# Altium footprint library KN2CLib.PcbLib: 124 footprints (part 5 of 8)
Each footprint in its own frame and in the unit in brackets; x right, y up, seen from the top. Pads: shape width x height; smd on the part's side, far side on the other; paste and mask are expansions set on the pad; w line width, h text height; cw(c..) or ccw(c..) is an arc to the next point about the centre after c.
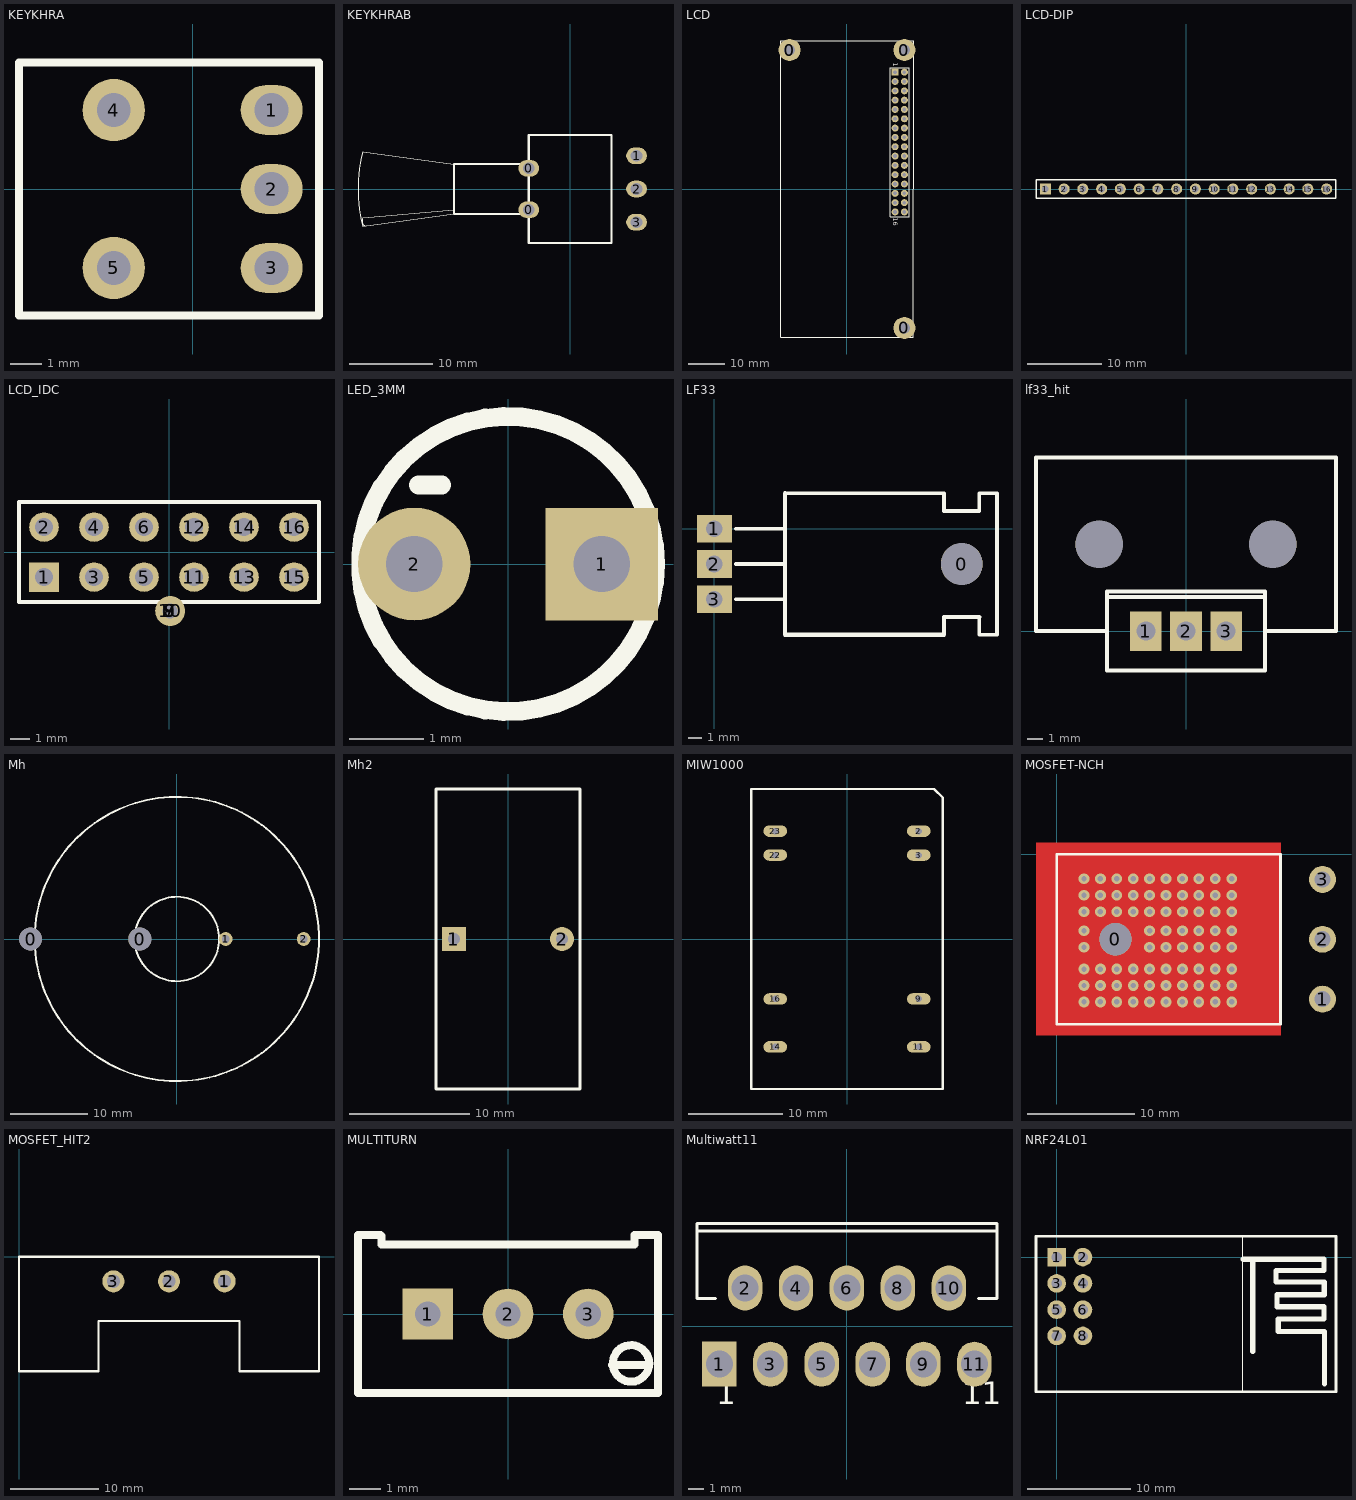
[diagram p4: the footprints below, top view; thin cyan lines are the x and y axes]

## KEYKHRA [mm]
pads (5):
  oval 2x1.6 hole 1.09: 1(2.54,2.54) 2(2.54,0) 3(2.54,-2.54)
  round 2 hole 1.09: 4(-2.54,2.54) 5(-2.54,-2.54)
Top Overlay:
  lines w0.254: -5.588,-4.064 -5.588,4.064 4.064,4.064 4.064,-4.064 -5.588,-4.064
3D body: height 4, standoff 0, extent -5.6,-4.1 4.025,4.1

## KEYKHRAB [mm]
pads (5):
  oval 2.5x2 hole 1.4: 0(-5,-2.5) 0(-5,2.5) 1(8,4) 2(8,0) 3(8,-4)
Top Overlay:
  lines w0.1: -25.024,-4.506 cw(c-7.503,0) -25.024,4.506 ; -25.025,-4.503 -14,-3 ; -25.025,4.503 -14,3 ; -25.002,-3.492 ccw(c-24.391,-3.85) -24.757,-4.456 ; -25.002,-3.487 -14,-2.5
  lines w0.254: -5,-3 -14,-3 -14,3 -5,3 ; -5,-6.5 -5,6.5 5,6.5 5,-6.5 -5,-6.5
3D body: height 8, standoff 0, extent -25.6,-6.5 4.975,6.5

## LCD [mm]
pads (35):
  round 6 hole 3: 0(-15.655,37.887) 0(15.655,-37.887) 0(15.655,37.887)
  rect 1.9x1.9 hole 1: 1(13.105,31.843)
  round 1.9 hole 1: 1(15.645,31.843) 2(13.105,29.303) 2(15.645,29.303) 3(13.105,26.763) 3(15.645,26.763) 4(13.105,24.223) 4(15.645,24.223) 5(13.105,21.683) 5(15.645,21.683) 6(13.105,19.143) 6(15.645,19.143) 7(13.105,16.603) 7(15.645,16.603) 8(13.105,14.063) 8(15.645,14.063) 9(13.105,11.523) 9(15.645,11.523) 10(13.105,8.983) 10(15.645,8.983) 11(13.105,6.443) 11(15.645,6.443) 12(13.105,3.903) 12(15.645,3.903) 13(13.105,1.363) 13(15.645,1.363) 14(13.105,-1.177) 14(15.645,-1.177) 15(13.105,-3.717) 15(15.645,-3.717) 16(13.105,-6.257) 16(15.645,-6.257)
Top Overlay:
  lines w0.2: 11.835,-7.527 16.915,-7.527 16.915,33.113 11.835,33.113 11.835,-7.527
  lines w0.254: -18.055,-40.387 18.055,-40.387 18.145,40.387 -18.055,40.387 -18.055,-40.387
  text "1" at 12.597,34.383 h1.27
  text "16" at 12.597,-7.781 h1.27
3D body: height 15, standoff 8, extent -18,-40.483 18.125,40.425
3D body: height 10, standoff 0, extent 11.8,-7.525 16.9,33.1

## LCD-DIP [mm]
pads (16):
  rect 1.5x1.5 hole 0.9: 1(-19.05,0)
  round 1.5 hole 0.9: 2(-16.51,0) 3(-13.97,0) 4(-11.43,0) 5(-8.89,0) 6(-6.35,0) 7(-3.81,0) 8(-1.27,0) 9(1.27,0) 10(3.81,0) 11(6.35,0) 12(8.89,0) 13(11.43,0) 14(13.97,0) 15(16.51,0) 16(19.05,0)
Top Overlay:
  lines w0.2: -20.32,-1.27 20.32,-1.27 20.32,1.27 -18.415,1.27 -20.32,1.27 -20.32,-1.27

## LCD_IDC [mm]
pads (16):
  rect 1.5x1.5 hole 0.9: 1(-6.35,-1.27)
  round 1.5 hole 0.9: 2(-6.35,1.27) 3(-3.81,-1.27) 4(-3.81,1.27) 5(-1.27,-1.27) 6(-1.27,1.27) 11(1.27,-1.27) 12(1.27,1.27) 13(3.81,-1.27) 14(3.81,1.27) 15(6.35,-1.27) 16(6.35,1.27)
  round 1.524 hole 0.762: 7(0.061,-2.992) 8(0.061,-2.992) 9(0.061,-2.992) 10(0.061,-2.992)
Top Overlay:
  lines w0.2: -7.62,-2.54 -7.62,2.54 7.62,2.54 7.62,-2.54 -7.62,-2.54

## LED_3MM [mil]
pads (2):
  rect 60x60 hole 30: 1(50,0)
  round 60 hole 30: 2(-50,0)
Top Overlay:
  circle w10: c0,0 r78.74
  lines w10: -47.7,42.1 -35.3,42.1
3D body: height 118.11, standoff 0, extent -79.72,-77.76 79.72,75.79

## LF33 [mm]
pads (4):
  round 3 hole 3: 0(17.78,-2.54)
  rect 2.5x2 hole 1.2: 1(0,0) 2(0,-2.54) 3(0,-5.08)
Top Overlay:
  lines w0.254: 1.524,-5.08 5.08,-5.08 ; 1.524,-2.54 5.08,-2.54 ; 1.524,0 5.08,0 ; 5.08,2.54 16.51,2.54 16.51,1.27 19.05,1.27 19.05,2.54 20.32,2.54 20.32,-7.62 19.05,-7.62 19.05,-6.35
  lines w0.305: 5.08,2.54 5.08,-7.62 16.51,-7.62 16.51,-6.35 19.05,-6.35
3D body: height 4, standoff 0, extent 5.15,-7.625 20.325,2.525

## lf33_hit [mm]
pads (5):
  rect 2x2.5 hole 1.2: 1(-2.54,0) 2(0,0) 3(2.54,0)
  round 3 hole 3: ""(-5.5,5.5) ""(5.5,5.5)
Top Overlay:
  lines w0.254: -5,0 -9.5,0 -9.5,11 9.5,11 9.5,0 5,0 ; -5,2.159 5,2.159 ; -5,-2.5 5,-2.5 5,2.5 -5,2.5 -5,-2.5
3D body: height 4, standoff 0, extent -9.525,-2.45 9.525,11.025

## Mh [mm]
pads (4):
  round 3 hole 3: 0(-19.05,0) 0(-4.826,0)
  round 1.8 hole 1: 1(6.35,0) 2(16.51,0)
Top Overlay:
  circle w0.254: c0,0 r18.5
  circle w0.254: c0,0 r5.5
3D body: height 5, standoff 0, extent -18.5,-18.5 18.575,18.525

## Mh2 [mm]
pads (2):
  rect 2x2 hole 1: 1(-4.5,0)
  round 2 hole 1: 2(4.5,0)
Top Overlay:
  lines w0.254: -6,-12.5 6,-12.5 6,12.5 -6,12.5 -6,-12.5
3D body: height 4, standoff 0, extent -5.95,-12.45 5.925,12.525

## MIW1000 [mm]
pads (8):
  oval 2.5x1.2 hole 0.7: 2(7.61,11.43) 3(7.61,8.89) 9(7.61,-6.35) 11(7.61,-11.43) 14(-7.61,-11.43) 16(-7.61,-6.35) 22(-7.61,8.89) 23(-7.61,11.43)
Top Overlay:
  lines w0.254: -10.15,-15.9 10.15,-15.9 10.15,14.983 9.233,15.9 -10.15,15.9 -10.15,-15.9
3D body: height 4, standoff 0, extent -10.1,-15.975 10.1,15.8

## MOSFET-NCH [mm]
pads (4):
  round 3 hole 3: 0(5.46,-7.9)
  round 2.5 hole 1.5: 1(24.7,-13.46) 2(24.7,-7.9) 3(24.7,-2.34)
via 2.54,-8.636 diameter 1 hole 0.5
via 2.54,-7.112 diameter 1 hole 0.5
via 14.732,-10.668 diameter 1 hole 0.5
via 16.256,-10.668 diameter 1 hole 0.5
via 8.636,-10.668 diameter 1 hole 0.5
via 10.16,-10.668 diameter 1 hole 0.5
via 13.208,-10.668 diameter 1 hole 0.5
via 11.684,-10.668 diameter 1 hole 0.5
via 5.588,-10.668 diameter 1 hole 0.5
via 7.112,-10.668 diameter 1 hole 0.5
via 4.064,-10.668 diameter 1 hole 0.5
via 2.54,-10.668 diameter 1 hole 0.5
via 14.732,-12.192 diameter 1 hole 0.5
via 16.256,-12.192 diameter 1 hole 0.5
via 8.636,-12.192 diameter 1 hole 0.5
via 10.16,-12.192 diameter 1 hole 0.5
via 13.208,-12.192 diameter 1 hole 0.5
via 11.684,-12.192 diameter 1 hole 0.5
via 5.588,-12.192 diameter 1 hole 0.5
via 7.112,-12.192 diameter 1 hole 0.5
via 4.064,-12.192 diameter 1 hole 0.5
via 2.54,-12.192 diameter 1 hole 0.5
via 14.732,-13.716 diameter 1 hole 0.5
via 16.256,-13.716 diameter 1 hole 0.5
via 8.636,-13.716 diameter 1 hole 0.5
via 10.16,-13.716 diameter 1 hole 0.5
via 13.208,-13.716 diameter 1 hole 0.5
via 11.684,-13.716 diameter 1 hole 0.5
via 5.588,-13.716 diameter 1 hole 0.5
via 7.112,-13.716 diameter 1 hole 0.5
via 4.064,-13.716 diameter 1 hole 0.5
via 2.54,-13.716 diameter 1 hole 0.5
via 2.54,-5.334 diameter 1 hole 0.5
via 4.064,-5.334 diameter 1 hole 0.5
via 7.112,-5.334 diameter 1 hole 0.5
via 5.588,-5.334 diameter 1 hole 0.5
via 11.684,-5.334 diameter 1 hole 0.5
via 13.208,-5.334 diameter 1 hole 0.5
via 10.16,-5.334 diameter 1 hole 0.5
via 8.636,-5.334 diameter 1 hole 0.5
via 16.256,-5.334 diameter 1 hole 0.5
via 14.732,-5.334 diameter 1 hole 0.5
via 2.54,-3.81 diameter 1 hole 0.5
via 4.064,-3.81 diameter 1 hole 0.5
via 7.112,-3.81 diameter 1 hole 0.5
via 5.588,-3.81 diameter 1 hole 0.5
via 11.684,-3.81 diameter 1 hole 0.5
via 13.208,-3.81 diameter 1 hole 0.5
via 10.16,-3.81 diameter 1 hole 0.5
via 8.636,-3.81 diameter 1 hole 0.5
via 16.256,-3.81 diameter 1 hole 0.5
via 14.732,-3.81 diameter 1 hole 0.5
via 2.54,-2.286 diameter 1 hole 0.5
via 4.064,-2.286 diameter 1 hole 0.5
via 7.112,-2.286 diameter 1 hole 0.5
via 5.588,-2.286 diameter 1 hole 0.5
via 11.684,-2.286 diameter 1 hole 0.5
via 13.208,-2.286 diameter 1 hole 0.5
via 10.16,-2.286 diameter 1 hole 0.5
via 8.636,-2.286 diameter 1 hole 0.5
via 16.256,-2.286 diameter 1 hole 0.5
via 14.732,-2.286 diameter 1 hole 0.5
via 14.732,-7.112 diameter 1 hole 0.5
via 16.256,-7.112 diameter 1 hole 0.5
via 8.636,-7.112 diameter 1 hole 0.5
via 10.16,-7.112 diameter 1 hole 0.5
via 13.208,-7.112 diameter 1 hole 0.5
via 11.684,-7.112 diameter 1 hole 0.5
via 14.732,-8.636 diameter 1 hole 0.5
via 16.256,-8.636 diameter 1 hole 0.5
via 8.636,-8.636 diameter 1 hole 0.5
via 10.16,-8.636 diameter 1 hole 0.5
via 13.208,-8.636 diameter 1 hole 0.5
via 11.684,-8.636 diameter 1 hole 0.5
Top Layer:
  rectangle: 1.27,-14.732 18.034,-1.27
  pour cut-out: 20.795,1.044 -1.915,1.044 -1.915,-16.792 20.81,-16.792 20.81,1.029
Bottom Layer:
  rectangle: 1.27,-14.732 18.034,-1.27
  pour cut-out: 0.003,-0.003 19.632,-0.003 19.632,-15.824 0,-15.824 0,-0.005
Top Overlay:
  lines w0.254: 0,-15.8 20.8,-15.8 20.8,0 0,0 0,-15.8
3D body: height 4.82, standoff 0.24, extent 0,-15.748 20.828,0

## MOSFET_HIT2 [mm]
pads (3):
  round 2.5 hole 1.5: 1(23.3,-2.8) 2(17,-2.8) 3(10.7,-2.8)
Top Overlay:
  lines w0.254: 0,-13 9,-13 9,-7.3 25,-7.3 25,-13 34,-13 34,0 0,0 0,-13

## MULTITURN [mm]
pads (3):
  rect 1.6x1.6 hole 0.8: 1(-2.54,0)
  round 1.6 hole 0.8: 2(0,0) 3(2.54,0)
Top Overlay:
  circle w0.254: c3.895,-1.565 r0.578
  lines w0.254: -4.036,2.5 -4.75,2.5 -4.75,-2.5 4.75,-2.5 4.75,2.5 4,2.5 ; -4,2.464 -4,2.2 4,2.2 4,2.493 ; 3.289,-1.615 4.422,-1.615
3D body: height 4, standoff 0, extent -4.775,-2.5 4.725,2.525

## Multiwatt11 [mm] "TO, Thru-Hole, Vertical, Heatsink Mounted; 11 Bent Staggered Leads; Pitch 1.7 mm"
height 21
pads (11):
  rect 2.3x3 hole 1.8: 1(-8.5,-2.54)
  oval 2.3x3 hole 1.8: 2(-6.8,2.54) 3(-5.1,-2.54) 4(-3.4,2.54) 5(-1.7,-2.54) 6(0,2.54) 7(1.7,-2.54) 8(3.4,2.54) 9(5.1,-2.54) 10(6.8,2.54) 11(8.5,-2.54)
Top Overlay:
  lines w0.2: -10,6.33 9.9,6.33 ; -8.754,1.83 -10,1.83 -10,6.83 10,6.83 10,1.83 8.774,1.83
  text "1" at -8.73,-5.215 h1.5
  text "11" at 7.67,-5.215 h1.5
3D body: height 4, standoff 0, extent -10,-0.225 10,6.85

## NRF24L01 [mm]
pads (8):
  rect 1.8x1.8 hole 1: 1(0,0)
  round 1.8 hole 1: 2(2.54,0) 3(0,-2.54) 4(2.54,-2.54) 5(0,-5.08) 6(2.54,-5.08) 7(0,-7.62) 8(2.54,-7.62)
Top Overlay:
  lines w0.1: 18,-13 18,2
  lines w0.254: -2,-13 27,-13 27,2 -2,2 -2,-13
  lines w0.5: 18.034,-0.203 25.832,-0.203 25.832,-1.295 21.209,-1.295 21.209,-2.413 25.857,-2.413 25.857,-3.632 21.311,-3.632 21.311,-4.801 25.832,-4.801 25.832,-5.994 21.412,-5.994 21.412,-7.188 25.883,-7.188 25.883,-12.243 ; 18.948,-9.119 18.948,-0.356